# Altium footprint library PCB - CAPACITOR - ALUMINIUM - CAP ALSMD ELEC 10.3MM H10.5MM LeadSpanMax12MM.pcblib: 1 footprints
Each footprint in its own frame and in the unit in brackets; x right, y up, seen from the top. Pads: shape width x height; smd on the part's side, far side on the other; paste and mask are expansions set on the pad; w line width, h text height; cw(c..) or ccw(c..) is an arc to the next point about the centre after c.
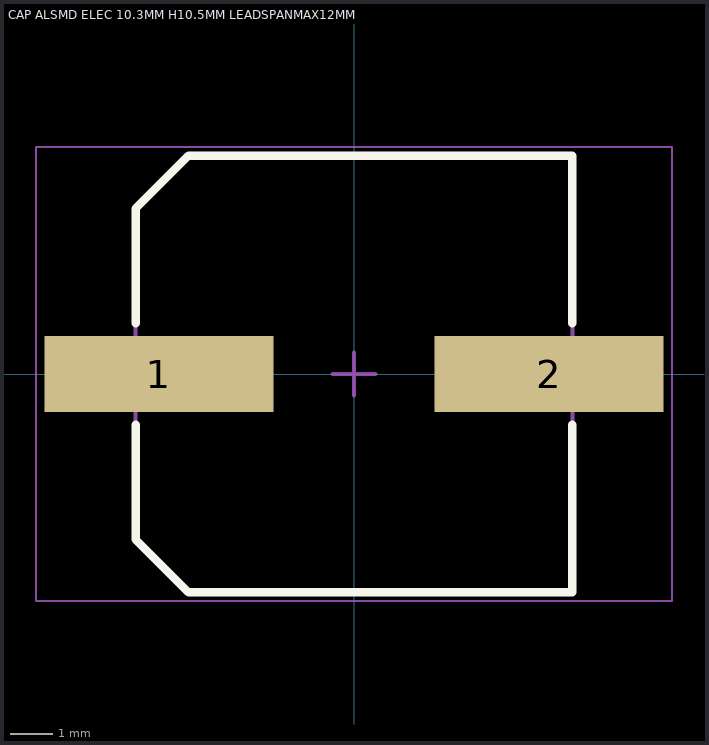
[diagram p0: the footprint, top view; thin cyan lines are the x and y axes]

## CAP ALSMD ELEC 10.3MM H10.5MM LEADSPANMAX12MM [mm] "Aluminum SMD Electrolytic Capacitor, 10.30mm Land Size, 10.00mm Diameter, 10.50mm Height, 12.00mm Maximum Leads Span"
height 0.9
pads (2):
  rect 5.4x1.8 smd: 1(-4.6,0) 2(4.6,0)
Top Overlay:
  lines w0.2: -5.15,-1.2 -5.15,-3.9 -3.9,-5.15 5.15,-5.15 5.15,-1.2 ; -5.15,1.2 -5.15,3.9 -3.9,5.15 5.15,5.15 5.15,1.2
Mechanical 13:
  lines w0.1: -5.15,-3.9 -5.15,3.9 -3.9,5.15 5.15,5.15 5.15,-5.15 -3.9,-5.15 -5.15,-3.9
Mechanical 15:
  lines w0.05: -7.5,-5.35 -7.5,5.35 7.5,5.35 7.5,-5.35 -7.5,-5.35
  lines w0.1: -0.5,0 0.5,0 ; 0,-0.5 0,0.5
3D body: height 10.5, standoff 0, extent -6,-5.15 6,5.15